# Altium schematic symbol library DS1022-2x3RF11.SchLib: 1 symbol
Pins are listed as number, name and electrical type; pins without a type are passive.

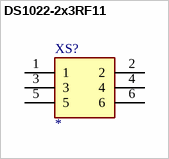
[diagram p0: symbol DS1022-2x3RF11]

## DS1022-2x3RF11
designator XS?
Connector; Manufacturer_Name: Connfly; Manufacturer_Part_Number: DS1023-2*3S21; Datasheet Link: https://en.connfly.com/static/upload/file/pdf/DS1023.pdf; Height: 8.88mm
footprint DS1022-2x3RF11
pins: 1, 2, 3, 4, 5, 6